# Altium footprint library CONN_W2B_JST.PcbLib: 168 footprints (part 3 of 11)
Each footprint in its own frame and in the unit in brackets; x right, y up, seen from the top. Pads: shape width x height; smd on the part's side, far side on the other; paste and mask are expansions set on the pad; w line width, h text height; cw(c..) or ccw(c..) is an arc to the next point about the centre after c.
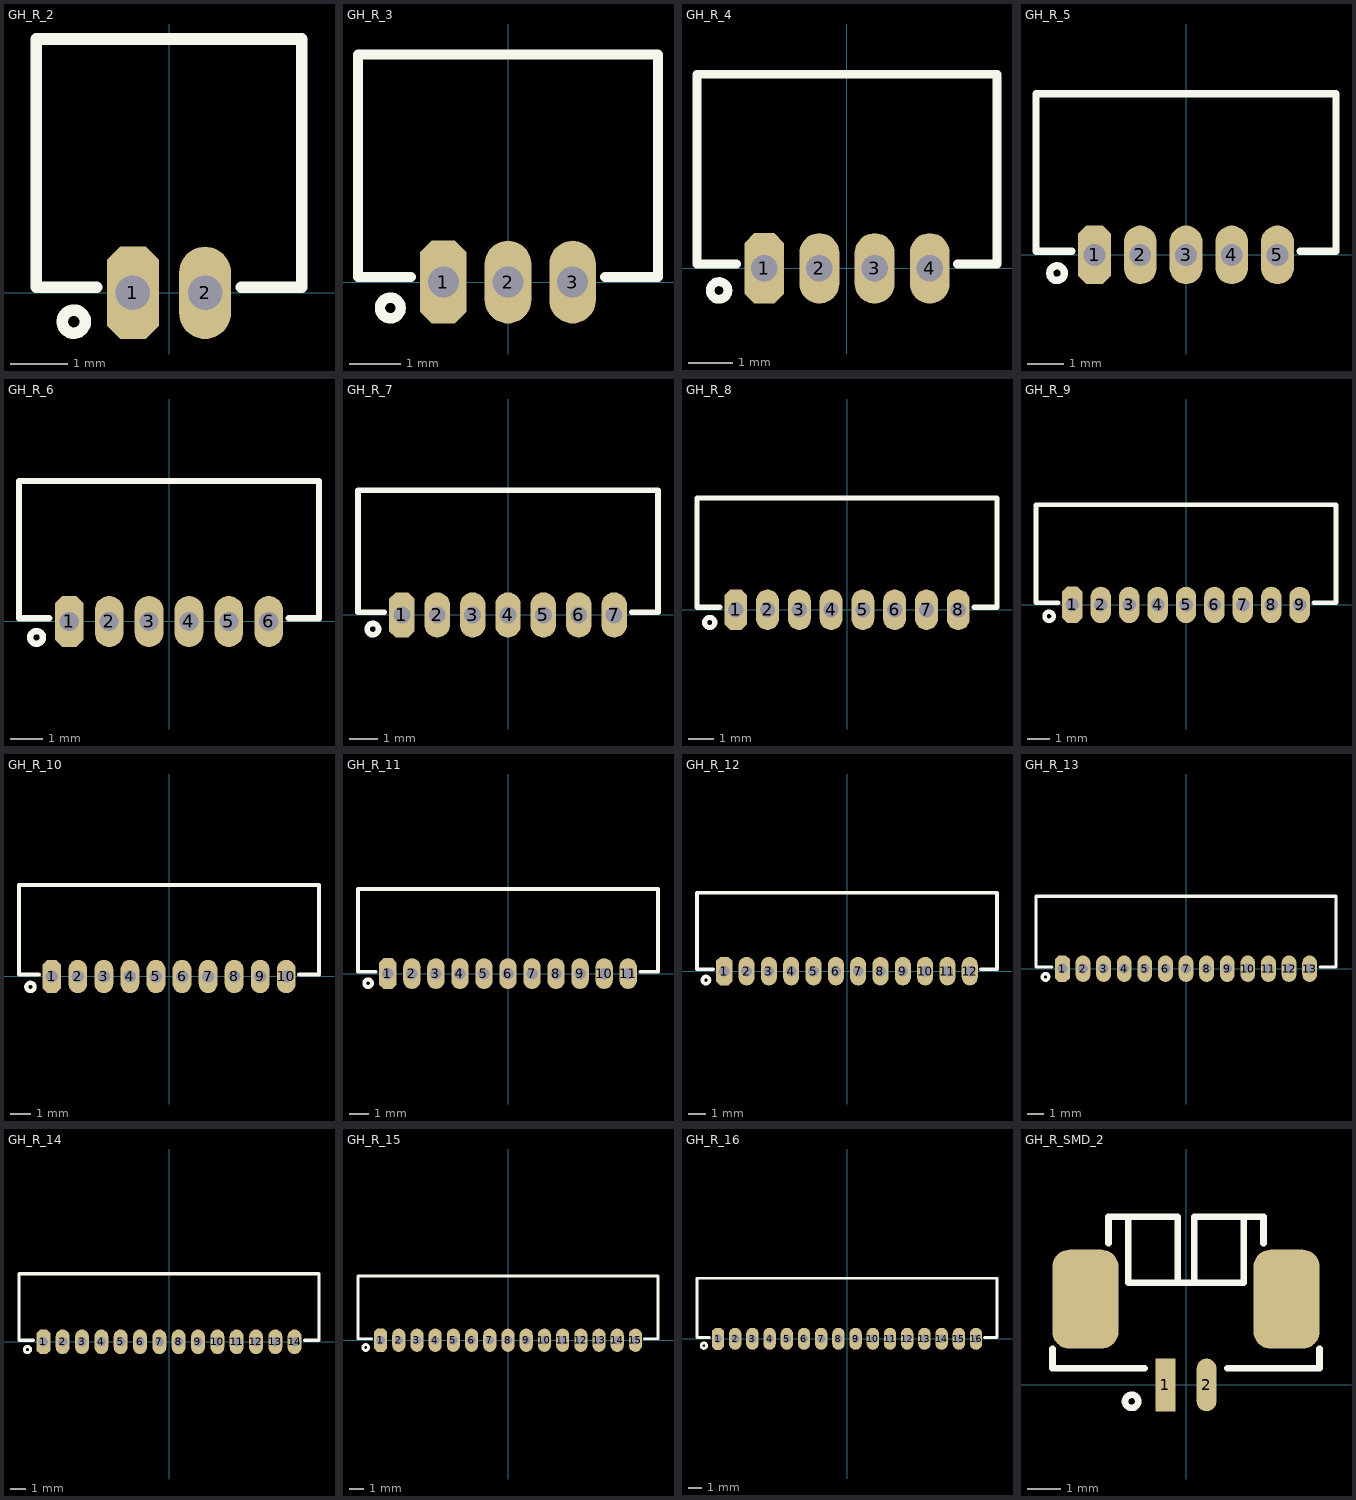
[diagram p2: the footprints below, top view; thin cyan lines are the x and y axes]

## GH_R_2 [mm] "JST GH Series, pitch: 1.25mm, 1.0A/50v, Right Angle"
pads (2):
  oct 0.9x1.6 hole 0.6: 1(-0.625,0)
  oval 0.9x1.6 hole 0.6: 2(0.625,0)
Top Overlay:
  circle w0.2: c-1.65,-0.5 r0.2
  lines w0.2: -1.25,0.1 -2.3,0.1 -2.3,4.4 2.3,4.4 2.3,0.1 1.25,0.1
3D body "JST - GH - Thru (R) - 2Pin - 1.25mm.stp": height 3.33, standoff -2.16, extent -2.215,-0.179 2.215,4.316

## GH_R_3 [mm] "JST GH Series, pitch: 1.25mm, 1.0A/50v, Right Angle"
pads (3):
  oct 0.9x1.6 hole 0.6: 1(-1.25,0)
  oval 0.9x1.6 hole 0.6: 2(0,0) 3(1.25,0)
Top Overlay:
  circle w0.2: c-2.275,-0.5 r0.2
  lines w0.2: -1.875,0.1 -2.9,0.1 -2.9,4.4 2.9,4.4 2.9,0.1 1.875,0.1
3D body "JST - GH - Thru (R) - 3Pin - 1.25mm.stp": height 3.33, standoff -2.16, extent -2.845,-0.179 2.845,4.316

## GH_R_4 [mm] "JST GH Series, pitch: 1.25mm, 1.0A/50v, Right Angle"
pads (4):
  oct 0.9x1.6 hole 0.6: 1(-1.875,0)
  oval 0.9x1.6 hole 0.6: 2(-0.625,0) 3(0.625,0) 4(1.875,0)
Top Overlay:
  circle w0.2: c-2.9,-0.5 r0.2
  lines w0.2: -2.5,0.1 -3.4,0.1 -3.4,4.4 3.4,4.4 3.4,0.1 2.5,0.1
3D body "JST - GH - Thru (R) - 4Pin - 1.25mm.stp": height 3.33, standoff -2.16, extent -3.374,-0.179 3.374,4.316

## GH_R_5 [mm] "JST GH Series, pitch: 1.25mm, 1.0A/50v, Right Angle"
pads (5):
  oct 0.9x1.6 hole 0.6: 1(-2.5,0)
  oval 0.9x1.6 hole 0.6: 2(-1.25,0) 3(0,0) 4(1.25,0) 5(2.5,0)
Top Overlay:
  circle w0.2: c-3.525,-0.5 r0.2
  lines w0.2: -3.125,0.1 -4.1,0.1 -4.1,4.4 4.1,4.4 4.1,0.1 3.125,0.1
3D body "JST - GH - Thru (R) - 5Pin - 1.25mm.stp": height 3.33, standoff -2.16, extent -3.998,-0.179 3.998,4.316

## GH_R_6 [mm] "JST GH Series, pitch: 1.25mm, 1.0A/50v, Right Angle"
pads (6):
  oct 0.9x1.6 hole 0.6: 1(-3.125,0)
  oval 0.9x1.6 hole 0.6: 2(-1.875,0) 3(-0.625,0) 4(0.625,0) 5(1.875,0) 6(3.125,0)
Top Overlay:
  circle w0.2: c-4.15,-0.5 r0.2
  lines w0.2: -3.75,0.1 -4.7,0.1 -4.7,4.4 4.7,4.4 4.7,0.1 3.75,0.1
3D body "JST - GH - Thru (R) - 6Pin - 1.25mm.stp": height 3.33, standoff -2.16, extent -4.623,-0.179 4.623,4.316

## GH_R_7 [mm] "JST GH Series, pitch: 1.25mm, 1.0A/50v, Right Angle"
pads (7):
  oct 0.9x1.6 hole 0.6: 1(-3.75,0)
  oval 0.9x1.6 hole 0.6: 2(-2.5,0) 3(-1.25,0) 4(0,0) 5(1.25,0) 6(2.5,0) 7(3.75,0)
Top Overlay:
  circle w0.2: c-4.775,-0.5 r0.2
  lines w0.2: -4.375,0.1 -5.3,0.1 -5.3,4.4 5.3,4.4 5.3,0.1 4.375,0.1
3D body "JST - GH - Thru (R) - 7Pin - 1.25mm.stp": height 3.33, standoff -2.16, extent -5.248,-0.179 5.248,4.316

## GH_R_8 [mm] "JST GH Series, pitch: 1.25mm, 1.0A/50v, Right Angle"
pads (8):
  oct 0.9x1.6 hole 0.6: 1(-4.375,0)
  oval 0.9x1.6 hole 0.6: 2(-3.125,0) 3(-1.875,0) 4(-0.625,0) 5(0.625,0) 6(1.875,0) 7(3.125,0) 8(4.375,0)
Top Overlay:
  circle w0.2: c-5.4,-0.5 r0.2
  lines w0.2: -5,0.1 -5.9,0.1 -5.9,4.4 5.9,4.4 5.9,0.1 5,0.1
3D body "JST - GH - Thru (R) - 8Pin - 1.25mm.stp": height 3.33, standoff -2.16, extent -5.873,-0.179 5.873,4.316

## GH_R_9 [mm] "JST GH Series, pitch: 1.25mm, 1.0A/50v, Right Angle"
pads (9):
  oct 0.9x1.6 hole 0.6: 1(-5,0)
  oval 0.9x1.6 hole 0.6: 2(-3.75,0) 3(-2.5,0) 4(-1.25,0) 5(0,0) 6(1.25,0) 7(2.5,0) 8(3.75,0) 9(5,0)
Top Overlay:
  circle w0.2: c-6.025,-0.5 r0.2
  lines w0.2: -5.625,0.1 -6.6,0.1 -6.6,4.4 6.6,4.4 6.6,0.1 5.625,0.1
3D body "JST - GH - Thru (R) - 9Pin - 1.25mm.stp": height 3.33, standoff -2.16, extent -6.498,-0.179 6.498,4.316

## GH_R_10 [mm] "JST GH Series, pitch: 1.25mm, 1.0A/50v, Right Angle"
pads (10):
  oct 0.9x1.6 hole 0.6: 1(-5.625,0)
  oval 0.9x1.6 hole 0.6: 2(-4.375,0) 3(-3.125,0) 4(-1.875,0) 5(-0.625,0) 6(0.625,0) 7(1.875,0) 8(3.125,0) 9(4.375,0) 10(5.625,0)
Top Overlay:
  circle w0.2: c-6.65,-0.5 r0.2
  lines w0.2: -6.25,0.1 -7.2,0.1 -7.2,4.4 7.2,4.4 7.2,0.1 6.25,0.1
3D body "JST - GH - Thru (R) - 10Pin - 1.25mm.stp": height 3.33, standoff -2.16, extent -7.123,-0.179 7.123,4.316

## GH_R_11 [mm] "JST GH Series, pitch: 1.25mm, 1.0A/50v, Right Angle"
pads (11):
  oct 0.9x1.6 hole 0.6: 1(-6.25,0)
  oval 0.9x1.6 hole 0.6: 2(-5,0) 3(-3.75,0) 4(-2.5,0) 5(-1.25,0) 6(0,0) 7(1.25,0) 8(2.5,0) 9(3.75,0) 10(5,0) 11(6.25,0)
Top Overlay:
  circle w0.2: c-7.275,-0.5 r0.2
  lines w0.2: -6.875,0.1 -7.8,0.1 -7.8,4.4 7.8,4.4 7.8,0.1 6.875,0.1
3D body "JST - GH - Thru (R) - 11Pin - 1.25mm.stp": height 3.33, standoff -2.16, extent -7.748,-0.179 7.748,4.316

## GH_R_12 [mm] "JST GH Series, pitch: 1.25mm, 1.0A/50v, Right Angle"
pads (12):
  oct 0.9x1.6 hole 0.6: 1(-6.875,0)
  oval 0.9x1.6 hole 0.6: 2(-5.625,0) 3(-4.375,0) 4(-3.125,0) 5(-1.875,0) 6(-0.625,0) 7(0.625,0) 8(1.875,0) 9(3.125,0) 10(4.375,0) 11(5.625,0) 12(6.875,0)
Top Overlay:
  circle w0.2: c-7.9,-0.5 r0.2
  lines w0.2: -7.5,0.1 -8.4,0.1 -8.4,4.4 8.4,4.4 8.4,0.1 7.5,0.1
3D body "JST - GH - Thru (R) - 12Pin - 1.25mm.stp": height 3.33, standoff -2.16, extent -8.373,-0.179 8.373,4.316

## GH_R_13 [mm] "JST GH Series, pitch: 1.25mm, 1.0A/50v, Right Angle"
pads (13):
  oct 0.9x1.6 hole 0.6: 1(-7.5,0)
  oval 0.9x1.6 hole 0.6: 2(-6.25,0) 3(-5,0) 4(-3.75,0) 5(-2.5,0) 6(-1.25,0) 7(0,0) 8(1.25,0) 9(2.5,0) 10(3.75,0) 11(5,0) 12(6.25,0) 13(7.5,0)
Top Overlay:
  circle w0.2: c-8.525,-0.5 r0.2
  lines w0.2: -8.125,0.1 -9.1,0.1 -9.1,4.4 9.1,4.4 9.1,0.1 8.125,0.1
3D body "JST - GH - Thru (R) - 13Pin - 1.25mm.stp": height 3.33, standoff -2.16, extent -8.998,-0.179 8.998,4.316

## GH_R_14 [mm] "JST GH Series, pitch: 1.25mm, 1.0A/50v, Right Angle"
pads (14):
  oct 0.9x1.6 hole 0.6: 1(-8.125,0)
  oval 0.9x1.6 hole 0.6: 2(-6.875,0) 3(-5.625,0) 4(-4.375,0) 5(-3.125,0) 6(-1.875,0) 7(-0.625,0) 8(0.625,0) 9(1.875,0) 10(3.125,0) 11(4.375,0) 12(5.625,0) 13(6.875,0) 14(8.125,0)
Top Overlay:
  circle w0.2: c-9.15,-0.5 r0.2
  lines w0.2: -8.75,0.1 -9.7,0.1 -9.7,4.4 9.7,4.4 9.7,0.1 8.75,0.1
3D body "JST - GH - Thru (R) - 14Pin - 1.25mm.stp": height 3.33, standoff -2.16, extent -9.623,-0.179 9.623,4.316

## GH_R_15 [mm] "JST GH Series, pitch: 1.25mm, 1.0A/50v, Right Angle"
pads (15):
  oct 0.9x1.6 hole 0.6: 1(-8.75,0)
  oval 0.9x1.6 hole 0.6: 2(-7.5,0) 3(-6.25,0) 4(-5,0) 5(-3.75,0) 6(-2.5,0) 7(-1.25,0) 8(0,0) 9(1.25,0) 10(2.5,0) 11(3.75,0) 12(5,0) 13(6.25,0) 14(7.5,0) 15(8.75,0)
Top Overlay:
  circle w0.2: c-9.775,-0.5 r0.2
  lines w0.2: -9.375,0.1 -10.3,0.1 -10.3,4.4 10.3,4.4 10.3,0.1 9.375,0.1
3D body "JST - GH - Thru (R) - 15Pin - 1.25mm.stp": height 3.33, standoff -2.16, extent -10.248,-0.179 10.248,4.316

## GH_R_16 [mm] "JST GH Series, pitch: 1.25mm, 1.0A/50v, Right Angle"
pads (16):
  oct 0.9x1.6 hole 0.6: 1(-9.375,0)
  oval 0.9x1.6 hole 0.6: 2(-8.125,0) 3(-6.875,0) 4(-5.625,0) 5(-4.375,0) 6(-3.125,0) 7(-1.875,0) 8(-0.625,0) 9(0.625,0) 10(1.875,0) 11(3.125,0) 12(4.375,0) 13(5.625,0) 14(6.875,0) 15(8.125,0) 16(9.375,0)
Top Overlay:
  circle w0.2: c-10.4,-0.5 r0.2
  lines w0.2: -10,0.1 -10.9,0.1 -10.9,4.4 10.9,4.4 10.9,0.1 10,0.1
3D body "JST - GH - Thru (R) - 16Pin - 1.25mm.stp": height 3.33, standoff -2.16, extent -10.873,-0.179 10.873,4.316

## GH_R_SMD_2 [mm] "JST GH Series, pitch: 1.25mm, 1.0A/50v, Right Angle, SMD"
pads (4):
  rect 0.6x1.6 smd: 1(-0.625,0)
  oval 0.6x1.6 smd: 2(0.625,0)
  rrect50% 2x3 smd: ""(-3.05,2.6) ""(3.05,2.6)
Top Overlay:
  circle w0.2: c-1.65,-0.5 r0.2
  lines w0.2: -4.05,1.1 -4.05,0.5 -1.25,0.5 ; -2.35,4.3 -2.35,5.1 -0.25,5.1 -0.25,3.1 ; -1.75,5.1 -1.75,3.1 1.75,3.1 1.75,5.1 ; 0.25,3.1 0.25,5.1 2.35,5.1 2.35,4.3 ; 1.25,0.5 4.05,0.5 4.05,1.1
3D body "JST - GH - SMD (R) - 2Pin - 1.25mm.stp": height 3.53, standoff 0, extent -3.914,-0.345 3.914,5.002